# Altium schematic symbol library SRAM.SchLib: 1 symbol
Pins are listed as number, name and electrical type; pins without a type are passive.

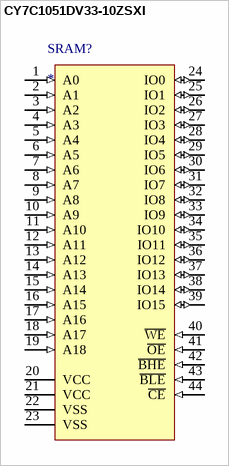
[diagram p0: symbol CY7C1051DV33-10ZSXI]

## CY7C1051DV33-10ZSXI
designator SRAM?
footprint TSOP-44-SRAM (TSOP, 44-Leads, Body 18.41x10.16mm, Pitch 0.80mm, IPC Medium Density); pin to pad 6>18 7>19 8>20 9>21 10>22 11>23 12>24 13>25 14>26 15>27 16>42 17>43 18>44 19>28 20>11 21>33 22>12 23>34 24>7 25>8 26>9 27>10 28>13 29>14 30>15 31>16 32>29 33>30 34>31 35>32 36>35 37>36 38>37 39>38 40>17 42>40 43>39 44>6
pins: 1 A0 (in), 2 A1 (in), 3 A2 (in), 4 A3 (in), 5 A4 (in), 6 A5 (in), 7 A6 (in), 8 A7 (in), 9 A8 (in), 10 A9 (in), 11 A10 (in), 12 A11 (in), 13 A12 (in), 14 A13 (in), 15 A14 (in), 16 A15 (in), 17 A16 (in), 18 A17 (in), 19 A18 (in), 20 VCC (power), 21 VCC (power), 22 VSS, 23 VSS, 24 IO0 (io), 25 IO1 (io), 26 IO2 (io), 27 IO3 (io), 28 IO4 (io), 29 IO5 (io), 30 IO6 (io), 31 IO7 (io), 32 IO8 (io), 33 IO9 (io), 34 IO10 (io), 35 IO11 (io), 36 IO12 (io), 37 IO13 (io), 38 IO14 (io), 39 IO15 (io), 40 ~{WE} (in), 41 ~{OE} (in), 42 ~{BHE} (in), 43 ~{BLE} (in), 44 ~{CE} (in)